# Altium schematic symbol library Library.SchLib: 691 symbols (part 7 of 11)
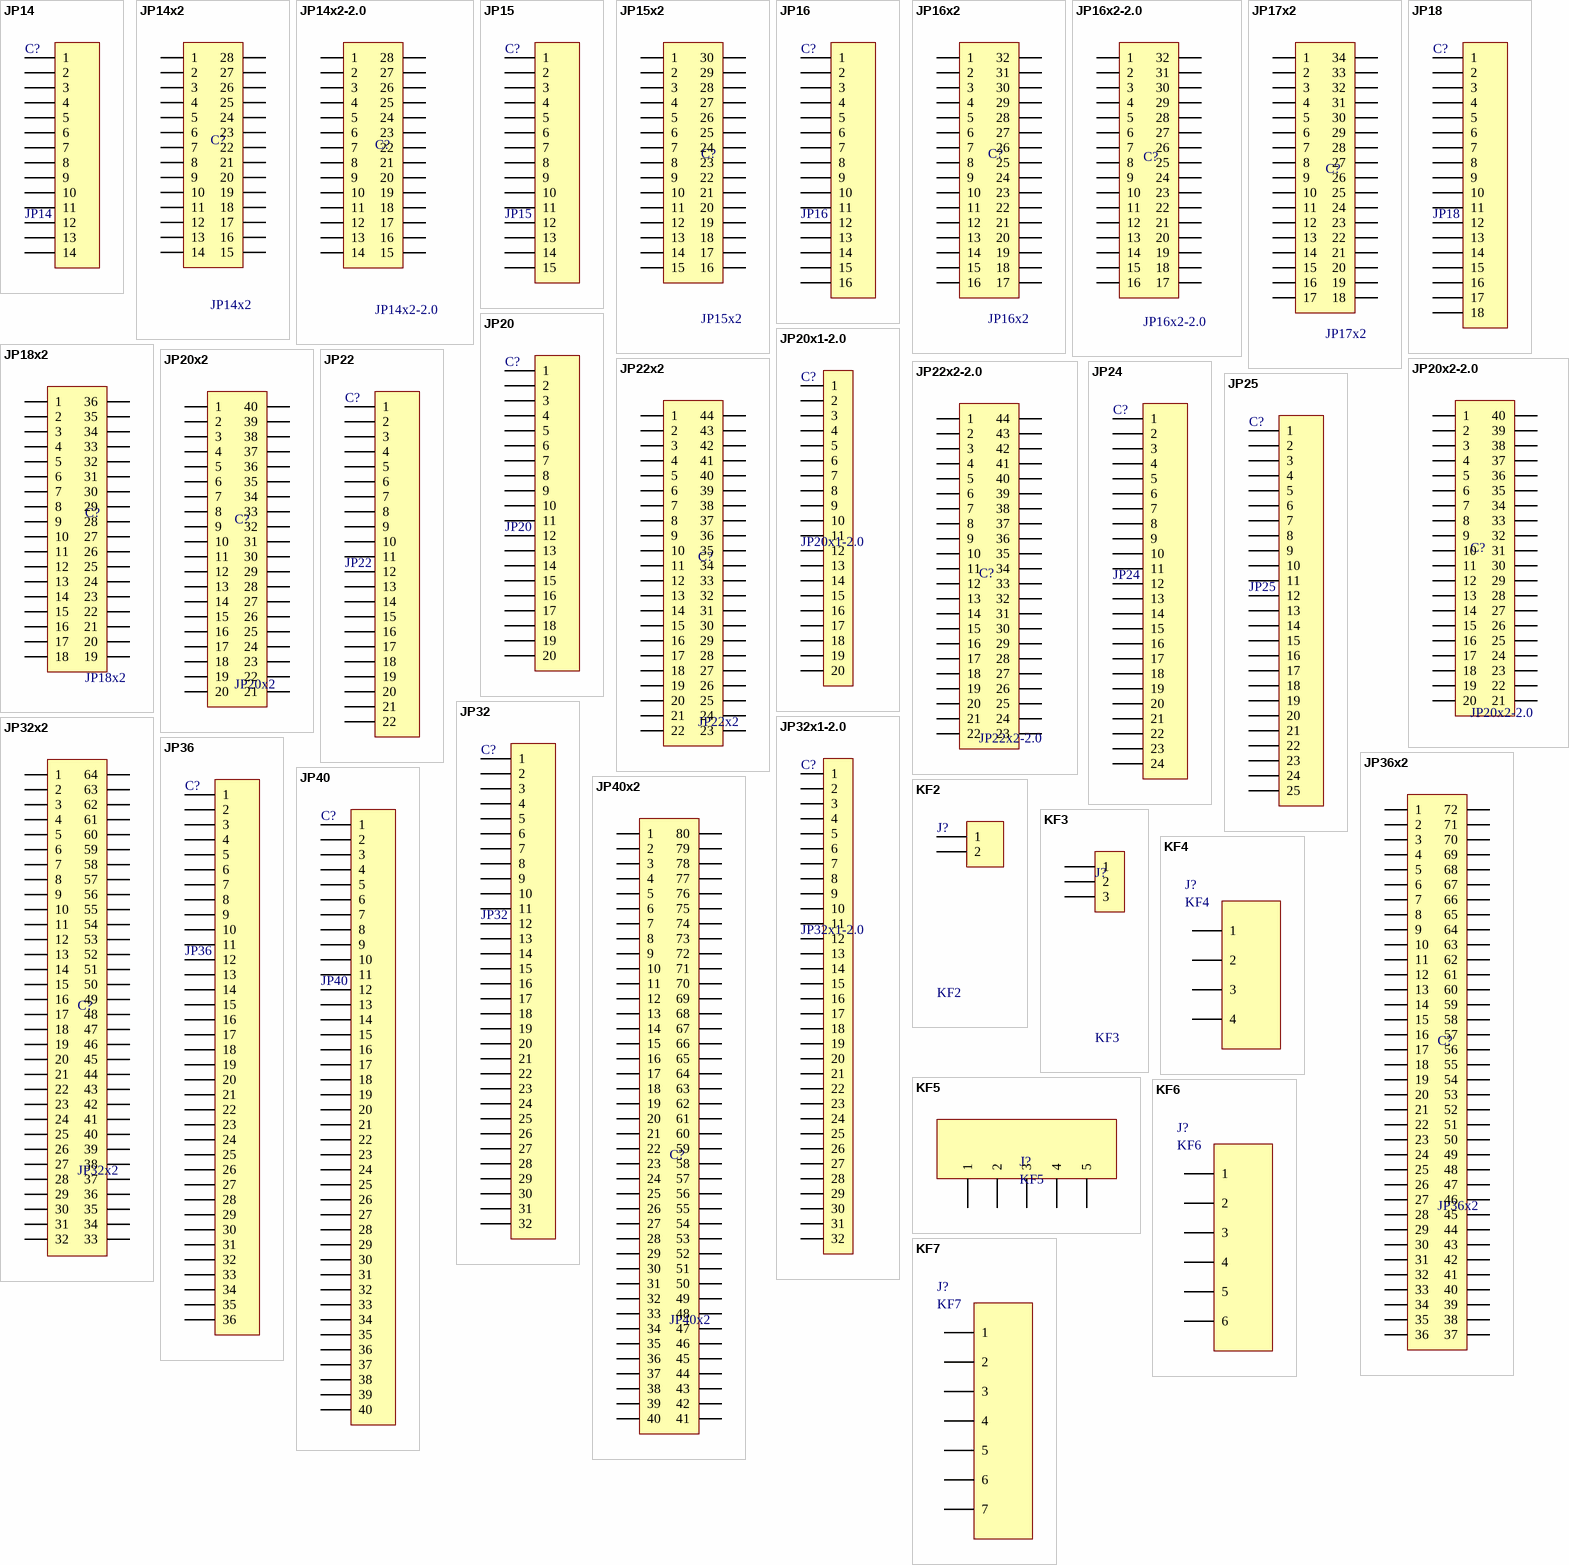
[diagram p52: symbols JP14 to KF7]

## JP20x2-2.0
designator C?
WR-PHD 2.00 mm Dual Pin Header; Manufacturer: W¨¹rth Elektronik eiSos GmbH; partNo: 62004021121; ComponentLink1 Description: Manufacturer; ComponentLink2 Description: Datasheet; NoPins: 40; Created Date: 2 April 2013; ComponentLink1URL: http://www.we-online.com; ComponentLink2URL: http://katalog.we-online.de/em/datasheet/6200xx21121.pdf; Created by: Karrer Zheng
footprint J20-C2T (40 pins, dual row, straight, gold plating)
footprint J20-D2T (40 pins, dual row, straight, gold plating)
pins: 1, 2, 3, 4, 5, 6, 7, 8, 9, 10, 11, 12, 13, 14, 15, 16, 17, 18, 19, 20, 21, 22, 23, 24, 25, 26, 27, 28, 29, 30, 31, 32, 33, 34, 35, 36, 37, 38, 39, 40

## JP22
designator C?
WR-PHD 2.54 mm Angled Socket Header; Manufacturer: W¨¹rth Elektronik eiSos GmbH; partNo: 613022143121; ComponentLink1 Description: Manufacturer; ComponentLink2 Description: Datasheet; NoPins: 22; Created Date: 29 March 2013; ComponentLink1URL: http://www.we-online.com; ComponentLink2URL: http://katalog.we-online.de/em/datasheet/6130xx143121.pdf; Created by: Karrer Zheng
footprint JP22-D1C (22 pins, 1 row, right angled, gold plating)
footprint JP22-D1T (22 pins, 1 row, straight, gold plating)
footprint JP22-C1C (22p 1 row Right angle)
footprint JP22-C1T (22 row, straight, gold plating)
pins: 1, 2, 3, 4, 5, 6, 7, 8, 9, 10, 11, 12, 13, 14, 15, 16, 17, 18, 19, 20, 21, 22

## JP22x2
designator C?
WR-PHD 2.54 mm Dual Socket Header; Manufacturer: W¨¹rth Elektronik eiSos GmbH; partNo: 61304421821; ComponentLink1 Description: Manufacturer; ComponentLink2 Description: Datasheet; NoPins: 44; Created Date: 29 March 2013; ComponentLink1URL: http://www.we-online.com; ComponentLink2URL: http://katalog.we-online.de/em/datasheet/6130xx21821.pdf; Created by: Karrer Zheng
footprint JP22-D2T (44 pins, dual pin, straight, gold plating)
footprint JP22-C2C (44p 2 rows Right angle)
footprint JP22-C2T (44 pins, dual row, straight, gold plating)
pins: 1, 2, 3, 4, 5, 6, 7, 8, 9, 10, 11, 12, 13, 14, 15, 16, 17, 18, 19, 20, 21, 22, 23, 24, 25, 26, 27, 28, 29, 30, 31, 32, 33, 34, 35, 36, 37, 38, 39, 40, 41, 42, 43, 44

## JP22x2-2.0
designator C?
WR-PHD 2.00 mm Dual Pin Header; Manufacturer: W¨¹rth Elektronik eiSos GmbH; partNo: 62004421121; ComponentLink1 Description: Manufacturer; ComponentLink2 Description: Datasheet; NoPins: 44; Created Date: 2 April 2013; ComponentLink1URL: http://www.we-online.com; ComponentLink2URL: http://katalog.we-online.de/em/datasheet/6200xx21121.pdf; Created by: Karrer Zheng
footprint J22-C2T (44 pins, dual row, straight, gold plating)
footprint J22-D2T (44pins, dual row, straight, gold plating)
pins: 1, 2, 3, 4, 5, 6, 7, 8, 9, 10, 11, 12, 13, 14, 15, 16, 17, 18, 19, 20, 21, 22, 23, 24, 25, 26, 27, 28, 29, 30, 31, 32, 33, 34, 35, 36, 37, 38, 39, 40, 41, 42, 43, 44

## JP24
designator C?
WR-PHD 2.54 mm Angled Socket Header; Manufacturer: W¨¹rth Elektronik eiSos GmbH; partNo: 613024143121; ComponentLink1 Description: Manufacturer; ComponentLink2 Description: Datasheet; NoPins: 24; Created Date: 29 March 2013; ComponentLink1URL: http://www.we-online.com; ComponentLink2URL: http://katalog.we-online.de/em/datasheet/6130xx143121.pdf; Created by: Karrer Zheng
footprint JP24-C1T (24 row, straight, gold plating)
footprint JP24-D1T (24 pins, 1 row, straight, gold plating)
footprint JP24-C1C (24p 1 row Right angle)
pins: 1, 2, 3, 4, 5, 6, 7, 8, 9, 10, 11, 12, 13, 14, 15, 16, 17, 18, 19, 20, 21, 22, 23, 24

## JP25
designator C?
WR-PHD 2.54 mm Angled Socket Header; Manufacturer: W¨¹rth Elektronik eiSos GmbH; partNo: 613025143121; ComponentLink1 Description: Manufacturer; ComponentLink2 Description: Datasheet; NoPins: 25; Created Date: 29 March 2013; ComponentLink1URL: http://www.we-online.com; ComponentLink2URL: http://katalog.we-online.de/em/datasheet/6130xx143121.pdf; Created by: Karrer Zheng
footprint JP25-D1T (25 pins, 1 row, straight, gold plating)
footprint JP25-C1C (25p 1 row Right angle)
footprint JP25-C1T (25 row, straight, gold plating)
pins: 1, 2, 3, 4, 5, 6, 7, 8, 9, 10, 11, 12, 13, 14, 15, 16, 17, 18, 19, 20, 21, 22, 23, 24, 25

## JP32
designator C?
WR-PHD 2.54 mm Angled Socket Header; Manufacturer: W¨¹rth Elektronik eiSos GmbH; partNo: 613032143121; ComponentLink1 Description: Manufacturer; ComponentLink2 Description: Datasheet; NoPins: 32; Created Date: 29 March 2013; ComponentLink1URL: http://www.we-online.com; ComponentLink2URL: http://katalog.we-online.de/em/datasheet/6130xx143121.pdf; Created by: Karrer Zheng
footprint JP32-D1C (32 pins, 1 row, right angled, gold plating)
footprint JP32-C1C (32p 1 row Right angle)
footprint JP32-C1T (32 row, straight, gold plating)
footprint JP32-D1T (32 pins, 1 row, straight, gold plating)
footprint JP32-D1T1 (32 pins, 1 row, gold plating)
footprint JP32-D1T2 (32 pins, 1 row, gold plating)
footprint JP32-D1T3 (32 pins, 1 row, gold plating)
footprint JP32-D1T4 (32 pins, 1 row, gold plating)
pins: 1, 2, 3, 4, 5, 6, 7, 8, 9, 10, 11, 12, 13, 14, 15, 16, 17, 18, 19, 20, 21, 22, 23, 24, 25, 26, 27, 28, 29, 30, 31, 32

## JP32x1-2.0
designator C?
WR-PHD 2.00 mm Socket Header; Manufacturer: W¨¹rth Elektronik eiSos GmbH; partNo: 62003211821; ComponentLink1 Description: Manufacturer; ComponentLink2 Description: Datasheet; NoPins: 32; Created Date: 2 April 2013; ComponentLink1URL: http://www.we-online.com; ComponentLink2URL: http://katalog.we-online.de/em/datasheet/6200xx11821.pdf; Created by: Karrer Zheng
footprint J32-C1T (32p, 1 row, straight, gold plating)
footprint J32-D1T (32 pins, 1 row, straight, gold plating)
pins: 1, 2, 3, 4, 5, 6, 7, 8, 9, 10, 11, 12, 13, 14, 15, 16, 17, 18, 19, 20, 21, 22, 23, 24, 25, 26, 27, 28, 29, 30, 31, 32

## JP32x2
designator C?
WR-PHD 2.54 mm Dual Socket Header; Manufacturer: W¨¹rth Elektronik eiSos GmbH; partNo: 61306421821; ComponentLink1 Description: Manufacturer; ComponentLink2 Description: Datasheet; NoPins: 64; Created Date: 29 March 2013; ComponentLink1URL: http://www.we-online.com; ComponentLink2URL: http://katalog.we-online.de/em/datasheet/6130xx21821.pdf; Created by: Karrer Zheng
footprint JP32-C2C (64p 2 rows Right angle)
footprint JP32-D2T (64 pins, dual pin, straight, gold plating)
footprint JP32-D2C (64 pins, dual row, right angled, gold plating)
footprint JP32-C2T (64 pins, dual row, straight, gold plating)
footprint JP32-D2T1 (64 pins, dual row, gold plating)
footprint JP32-D2T2 (64 pins, dual row, gold plating)
footprint JP32-D2T3 (64 pins, dual row, gold plating)
footprint JP32-D2T4 (64 pins, dual row, gold plating)
pins: 1, 2, 3, 4, 5, 6, 7, 8, 9, 10, 11, 12, 13, 14, 15, 16, 17, 18, 19, 20, 21, 22, 23, 24, 25, 26, 27, 28, 29, 30, 31, 32, 33, 34, 35, 36, 37, 38, 39, 40, 41, 42, 43, 44, 45, 46, 47, 48, 49, 50, 51, 52, 53, 54, 55, 56, 57, 58, 59, 60, 61, 62, 63, 64

## JP36
designator C?
WR-PHD 2.54 mm Angled Socket Header; Manufacturer: W¨¹rth Elektronik eiSos GmbH; partNo: 613036143121; ComponentLink1 Description: Manufacturer; ComponentLink2 Description: Datasheet; NoPins: 36; Created Date: 29 March 2013; ComponentLink1URL: http://www.we-online.com; ComponentLink2URL: http://katalog.we-online.de/em/datasheet/6130xx143121.pdf; Created by: Karrer Zheng
footprint JP36-D1C (36 pins, 1 row, right angled, gold plating)
footprint JP36-C1C (36p 1 row Right angle)
footprint JP36-C1T (36 row, straight, gold plating)
footprint JP36-D1T (36 pins, 1 row, straight, gold plating)
pins: 1, 2, 3, 4, 5, 6, 7, 8, 9, 10, 11, 12, 13, 14, 15, 16, 17, 18, 19, 20, 21, 22, 23, 24, 25, 26, 27, 28, 29, 30, 31, 32, 33, 34, 35, 36

## JP36x2
designator C?
WR-PHD 2.54 mm Dual Socket Header; Manufacturer: W¨¹rth Elektronik eiSos GmbH; partNo: 61307221821; ComponentLink1 Description: Manufacturer; ComponentLink2 Description: Datasheet; NoPins: 72; Created Date: 29 March 2013; ComponentLink1URL: http://www.we-online.com; ComponentLink2URL: http://katalog.we-online.de/em/datasheet/6130xx21821.pdf; Created by: Karrer Zheng
footprint JP36-C2T (72 pins, dual row, straight, gold plating)
footprint JP36-C2C (72p 2 rows Right angle)
footprint JP36-D2T (72 pins, dual pin, straight, gold plating)
footprint JP36-D2C (72 pins, dual row, right angled, gold plating)
pins: 1, 2, 3, 4, 5, 6, 7, 8, 9, 10, 11, 12, 13, 14, 15, 16, 17, 18, 19, 20, 21, 22, 23, 24, 25, 26, 27, 28, 29, 30, 31, 32, 33, 34, 35, 36, 37, 38, 39, 40, 41, 42, 43, 44, 45, 46, 47, 48, 49, 50, 51, 52, 53, 54, 55, 56, 57, 58, 59, 60, 61, 62, 63, 64, 65, 66, 67, 68, 69, 70, 71, 72

## JP40
designator C?
WR-PHD 2.54 mm Angled Socket Header; Manufacturer: W¨¹rth Elektronik eiSos GmbH; partNo: 613040143121; ComponentLink1 Description: Manufacturer; ComponentLink2 Description: Datasheet; NoPins: 40; Created Date: 29 March 2013; ComponentLink1URL: http://www.we-online.com; ComponentLink2URL: http://katalog.we-online.de/em/datasheet/6130xx143121.pdf; Created by: Karrer Zheng
footprint JP40-D1C (40 pins, 1 row, right angled, gold plating)
footprint JP40-C1C (40p 1 row Right angle)
footprint JP40-D1T (40 pins, 1 row, straight, gold plating)
footprint JP40-C1T (40 row, straight, gold plating)
pins: 1, 2, 3, 4, 5, 6, 7, 8, 9, 10, 11, 12, 13, 14, 15, 16, 17, 18, 19, 20, 21, 22, 23, 24, 25, 26, 27, 28, 29, 30, 31, 32, 33, 34, 35, 36, 37, 38, 39, 40

## JP40x2
designator C?
WR-PHD 2.54 mm Dual Socket Header; Manufacturer: W¨¹rth Elektronik eiSos GmbH; partNo: 61307221821; ComponentLink1 Description: Manufacturer; ComponentLink2 Description: Datasheet; NoPins: 72; Created Date: 29 March 2013; ComponentLink1URL: http://www.we-online.com; ComponentLink2URL: http://katalog.we-online.de/em/datasheet/6130xx21821.pdf; Created by: Karrer Zheng
footprint JP40-D2T (80 pins, dual row, right angled, gold plating)
pins: 1, 2, 3, 4, 5, 6, 7, 8, 9, 10, 11, 12, 13, 14, 15, 16, 17, 18, 19, 20, 21, 22, 23, 24, 25, 26, 27, 28, 29, 30, 31, 32, 33, 34, 35, 36, 37, 38, 39, 40, 41, 42, 43, 44, 45, 46, 47, 48, 49, 50, 51, 52, 53, 54, 55, 56, 57, 58, 59, 60, 61, 62, 63, 64, 65, 66, 67, 68, 69, 70, 71, 72, 73, 74, 75, 76, 77, 78, 79, 80

## KF2
designator J?
Manufacturer: Würth Elektronik eiSos GmbH; partNo: 691103110002; ComponentLink1 Description: Manufacturer; ComponentLink2 Description: Datasheet; NoPins: 2; Created Date: 29 October 2013; ComponentLink1URL: http://www.we-online.com; ComponentLink2URL: http://katalog.we-online.de/em/datasheet/6911031100xx.pdf; Created by: Karrer Zheng
footprint KF2-3.5 (3,50mm - modular - blue - Horizontal wire entry - Pressure clamp - 8,4mm height - 02p)
footprint KF2-5.08
footprint KF2-5.08T (Header 2, 2 pin, hight 300mil, Pin to Pin 200, Colour Green)
footprint KF2-7.62
pins: 1, 2

## KF3
designator J?
Manufacturer: Würth Elektronik eiSos GmbH; partNo: 691103110003; ComponentLink1 Description: Manufacturer; ComponentLink2 Description: Datasheet; NoPins: 3; Created Date: 29 October 2013; ComponentLink1URL: http://www.we-online.com; ComponentLink2URL: http://katalog.we-online.de/em/datasheet/6911031100xx.pdf; Created by: Karrer Zheng
footprint KF3-5.08
footprint KF3-10 (Serie 1368 - 10.00 mm _ 3 pins)
footprint KF3-3.5 (3,50mm - modular - blue - Horizontal wire entry - Pressure clamp - 8,4mm height - 03p)
footprint KF3-3.96-T1 (3,96mm - modular - blue - Horizontal wire entry - Pressure clamp - 10mm height - 03p)
footprint KF3-8.5
footprint KF3-5.08T (Header 3, 3 pin, hight 300mil, Pin to Pin 200, Colour Green)
footprint KF3-7.62
pins: 1, 2, 3

## KF4
designator J?
Manufacturer: W¨¹rth Elektronik eiSos GmbH; PartNo: 691133710004; ComponentLink1 Description: Manufacturer; ComponentLink2 Description: Datasheet; NoPins: 4; ComponentLink1 URL: http://www.we-online.com; ComponentLink2 URL: http://katalog.we-online.de/em/datasheet/6911337100xx.pdf; Created By: Baojun Chen; Created Date: 4-Aug-15
footprint KF4-5.08
footprint KF4-10 (Serie 1368 - 10.00 mm _ 4 pins)
footprint KF4-5 (Serie 1337 - 5.00 mm_4 pins)
footprint KF4-8.5
footprint KF4-5.08T (Header 4, 4 pin, hight 300mil, Pin to Pin 200, Colour Green)
footprint KF4-7.62
pins: 1, 2, 3, 4

## KF5
designator J?
Manufacturer: W¨¹rth Elektronik eiSos GmbH; PartNo: 691133710005; ComponentLink1 Description: Manufacturer; ComponentLink2 Description: Datasheet; NoPins: 5; ComponentLink1 URL: http://www.we-online.com; ComponentLink2 URL: http://katalog.we-online.de/em/datasheet/6911337100xx.pdf; Created By: Baojun Chen; Created Date: 4-Aug-15
footprint KF5-10 (Serie 1368 - 10.00 mm _ 5 pins)
footprint KF5-5 (Serie 1337 - 5.00 mm_5 pins)
footprint KF5-5.08T
footprint KF5-7.62
pins: 1, 2, 3, 4, 5

## KF6
designator J?
Manufacturer: W¨¹rth Elektronik eiSos GmbH; PartNo: 691133710006; ComponentLink1 Description: Manufacturer; ComponentLink2 Description: Datasheet; NoPins: 6; ComponentLink1 URL: http://www.we-online.com; ComponentLink2 URL: http://katalog.we-online.de/em/datasheet/6911337100xx.pdf; Created By: Baojun Chen; Created Date: 4-Aug-15
footprint KF6-5 (Serie 1337 - 5.00 mm_6 pins)
footprint KF6-10 (Serie 1368 - 10.00 mm _ 6 pins)
pins: 1, 2, 3, 4, 5, 6

## KF7
designator J?
Manufacturer: W¨¹rth Elektronik eiSos GmbH; PartNo: 691133710007; ComponentLink1 Description: Manufacturer; ComponentLink2 Description: Datasheet; NoPins: 7; ComponentLink1 URL: http://www.we-online.com; ComponentLink2 URL: http://katalog.we-online.de/em/datasheet/6911337100xx.pdf; Created By: Baojun Chen; Created Date: 4-Aug-15
footprint KF7-10 (Serie 1368 - 10.00 mm _ 7 pins)
footprint KF7-5 (Serie 1337 - 5.00 mm_7 pins)
pins: 1, 2, 3, 4, 5, 6, 7

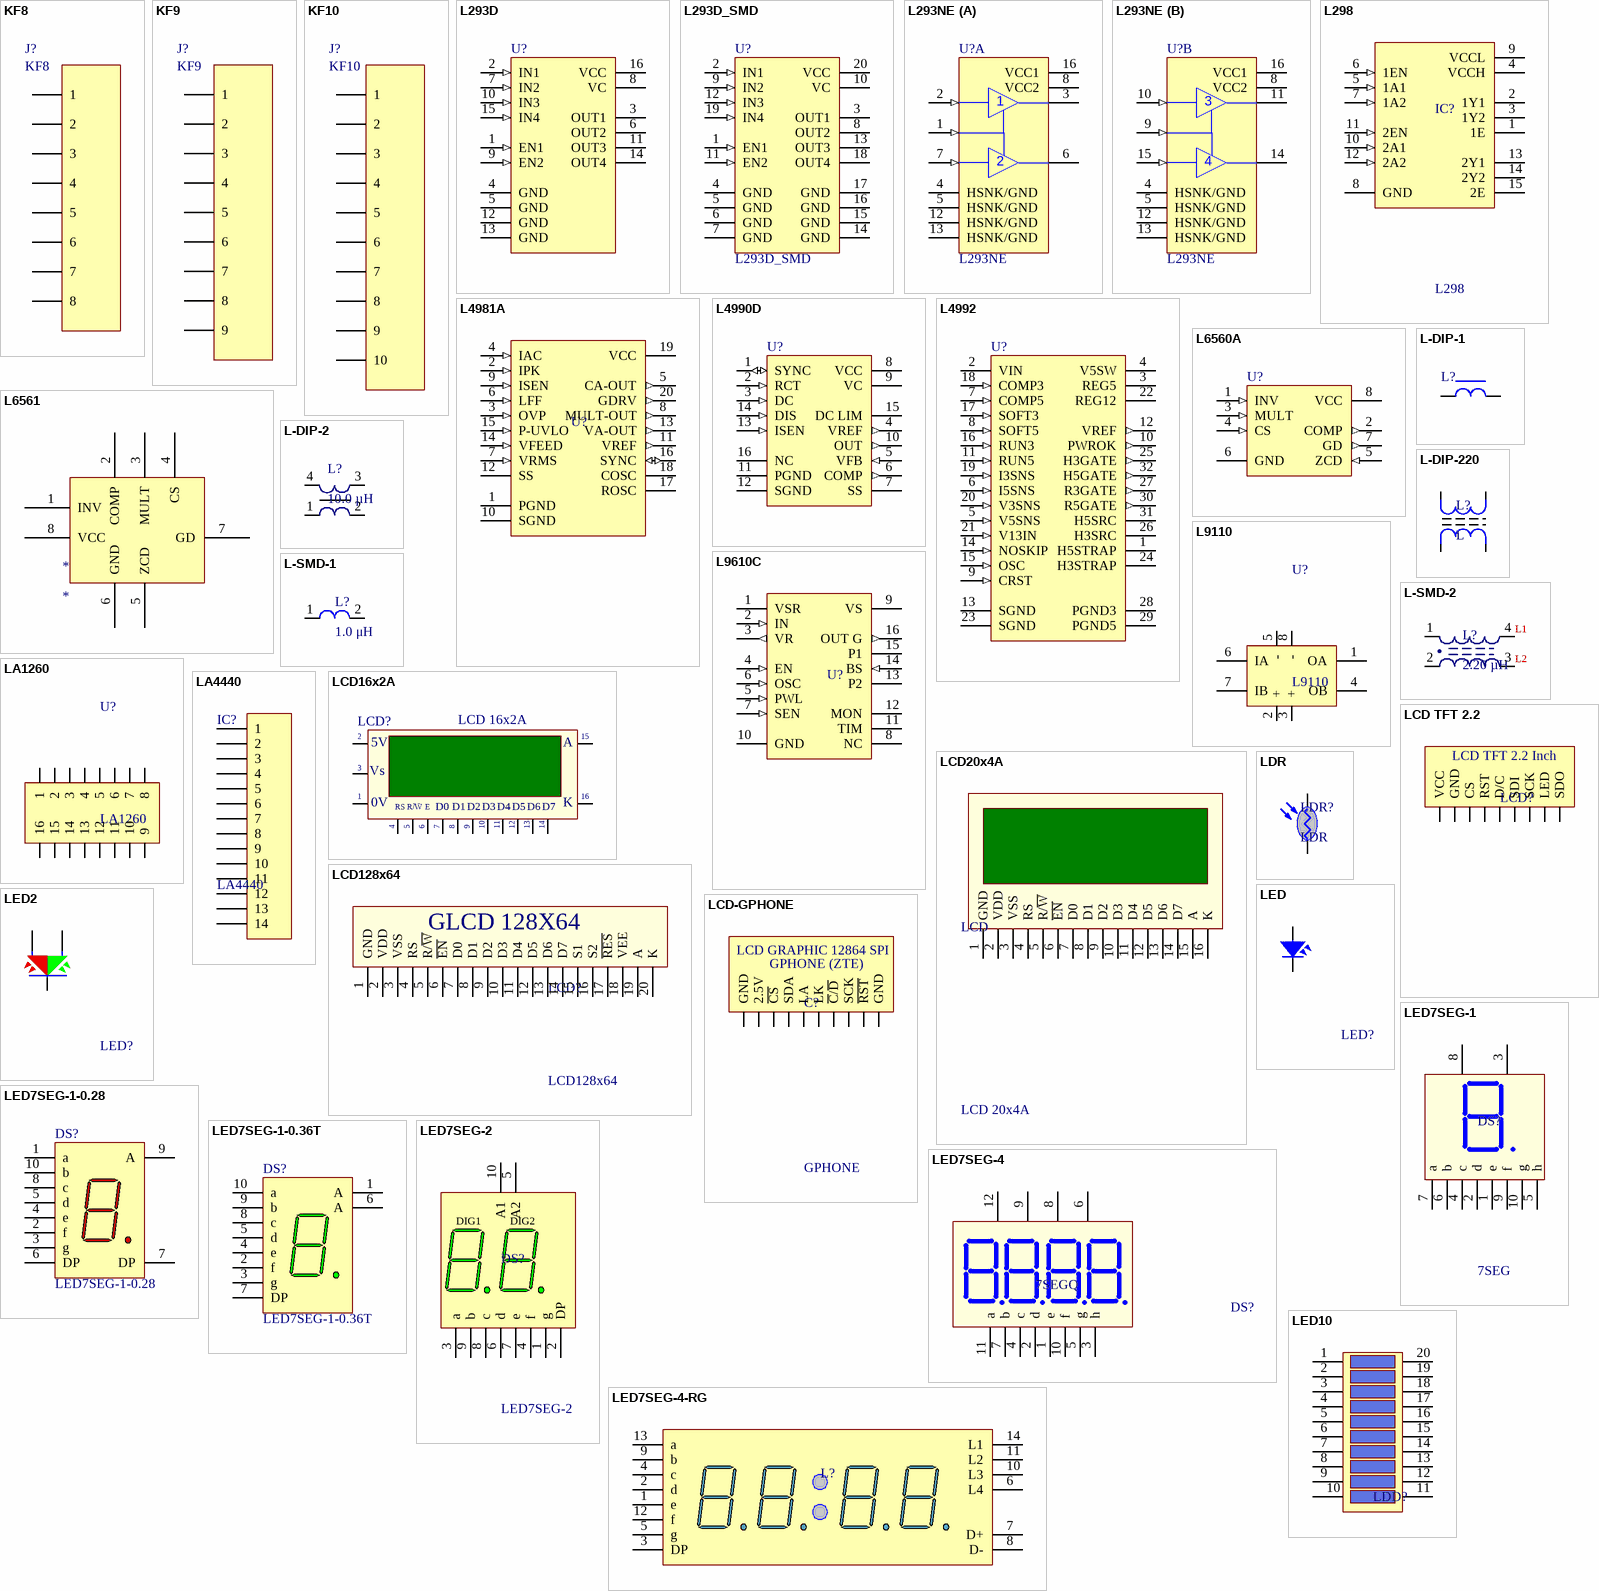
[diagram p31: symbols KF8 to LED10]

## KF8
designator J?
Manufacturer: W¨¹rth Elektronik eiSos GmbH; PartNo: 691133710008; ComponentLink1 Description: Manufacturer; ComponentLink2 Description: Datasheet; NoPins: 8; ComponentLink1 URL: http://www.we-online.com; ComponentLink2 URL: http://katalog.we-online.de/em/datasheet/6911337100xx.pdf; Created By: Baojun Chen; Created Date: 4-Aug-15
footprint KF8-10 (Serie 1368 - 10.00 mm _ 8 pins)
footprint KF8-5 (Serie 1337 - 5.00 mm_8 pins)
pins: 1, 2, 3, 4, 5, 6, 7, 8

## KF9
designator J?
Manufacturer: W¨¹rth Elektronik eiSos GmbH; PartNo: 691133710009; ComponentLink1 Description: Manufacturer; ComponentLink2 Description: Datasheet; NoPins: 9; ComponentLink1 URL: http://www.we-online.com; ComponentLink2 URL: http://katalog.we-online.de/em/datasheet/6911337100xx.pdf; Created By: Baojun Chen; Created Date: 4-Aug-15
footprint KF9-10 (Serie 1368 - 10.00 mm _ 9 pins)
footprint KF9-5 (Serie 1337 - 5.00 mm_9 pins)
pins: 1, 2, 3, 4, 5, 6, 7, 8, 9

## KF10
designator J?
Manufacturer: W¨¹rth Elektronik eiSos GmbH; PartNo: 691133710010; ComponentLink1 Description: Manufacturer; ComponentLink2 Description: Datasheet; NoPins: 10; ComponentLink1 URL: http://www.we-online.com; ComponentLink2 URL: http://katalog.we-online.de/em/datasheet/6911337100xx.pdf; Created By: Baojun Chen; Created Date: 4-Aug-15
footprint KF10-10 (Serie 1368 - 10.00 mm _ 10 pins)
footprint KF10-5 (Serie 1337 - 5.00 mm_10 pins)
pins: 1, 2, 3, 4, 5, 6, 7, 8, 9, 10

## L293D
designator U?
Push-Pull Four Channel Driver With Diode; Published: 8-Jun-2000; LatestRevisionDate: 06-Jun-2005; LatestRevisionNote: Stylized 3D Model Added.; DatasheetVersion: Jun-1996; PackageVersion: Apr-1996; PackageReference: DIP16; Publisher: Altium Limited; PackageDescription: DIP; 16 Leads; Row Spacing 7.62 mm; Pitch 2.54 mm; ComponentLink1Description: Manufacturer Link; ComponentLink1URL: http://www.st.com/; ComponentLink2Description: Datasheet; ComponentLink2URL: http://www.st.com/stonline/products/literature/ds/1330/l293d.pdf
footprint DIP16
pins: 1 EN1 (in), 2 IN1 (in), 3 OUT1 (hiz), 4 GND (power), 5 GND (power), 6 OUT2 (hiz), 7 IN2 (in), 8 VC (power), 9 EN2 (in), 10 IN3 (in), 11 OUT3 (hiz), 12 GND (power), 13 GND (power), 14 OUT4 (hiz), 15 IN4 (in), 16 VCC (power)

## L293D_SMD
designator U?
Push-Pull Four Channel Driver With Diode; Published: 8-Jun-2000; LatestRevisionDate: 06-Jun-2005; LatestRevisionNote: Stylized 3D Model Added.; DatasheetVersion: Jun-1996; PackageVersion: Apr-1996; PackageReference: DIP16; Publisher: Altium Limited; PackageDescription: DIP; 16 Leads; Row Spacing 7.62 mm; Pitch 2.54 mm; ComponentLink1Description: Manufacturer Link; ComponentLink1URL: http://www.st.com/; ComponentLink2Description: Datasheet; ComponentLink2URL: http://www.st.com/stonline/products/literature/ds/1330/l293d.pdf
footprint SO20 (SOIC, 20-Leads, Body 12.60x7.50mm, Pitch 1.27mm, IPC Medium Density)
pins: 1 EN1 (in), 2 IN1 (in), 3 OUT1 (hiz), 4 GND (power), 5 GND (power), 6 GND (power), 7 GND (power), 8 OUT2 (hiz), 9 IN2 (in), 10 VC (power), 11 EN2 (in), 12 IN3 (in), 13 OUT3 (hiz), 14 GND (power), 15 GND (power), 16 GND (power), 17 GND (power), 18 OUT4 (hiz), 19 IN4 (in), 20 VCC (power)

## L293NE
designator U?
Quadruple Half-H Driver; Published: 15-May-2002; LatestRevisionDate: 04-Mar-2005; LatestRevisionNote: Stylized 3D Model Added.; DatasheetVersion: May-1990; PackageVersion: 1991; PackageReference: NE016; Publisher: Altium Limited; PackageDescription: DIP; 16 Leads; Row Spacing 7.62 mm; Pitch 2.54 mm; Code_JEDEC: MS-001-BB; ComponentLink1Description: Manufacturer Link; ComponentLink1URL: http://www.ti.com/; ComponentLink2Description: Datasheet; ComponentLink2URL: http://www-s.ti.com/sc/ds/l293.pdf
footprint DIP16
pins on every part: 4 HSNK/GND (power), 5 HSNK/GND (power), 8 VCC2 (power), 12 HSNK/GND (power), 13 HSNK/GND (power), 16 VCC1 (power)
part A pins: 1 1,2EN (in), 2 1A (in), 3 1Y (hiz), 6 2Y (hiz), 7 2A (in)
part B pins: 9 3,4EN (in), 10 3A (in), 11 3Y (hiz), 14 4Y (hiz), 15 4A (in)

## L298
designator IC?
Dual Full-H Driver; Note: The tab is elec is connected to GND pin; Published: 15-May-2002; DatasheetVersion: Jun-1990; PackageReference: KV015; Publisher: Altium Limited; PackageDescription: TO, Thru-Hole, Vertical, Heatsink Mounted; 15 Bent Staggered Leads; Pitch 1.27 mm; ComponentLink1Description: Manufacturer Link; ComponentLink1URL: http://www.ti.com/
footprint DIP15SL2
pins: 1 1E, 2 1Y1 (hiz), 3 1Y2 (hiz), 4 VCCH (power), 5 1A1 (in), 6 1EN (in), 7 1A2 (in), 8 GND (power), 9 VCCL (power), 10 2A1 (in), 11 2EN (in), 12 2A2 (in), 13 2Y1 (hiz), 14 2Y2 (hiz), 15 2E

## L4981A
designator U?
Power Factor Corrector; Published: 24-Aug-2001; LatestRevisionDate: 06-Jun-2005; LatestRevisionNote: Stylized 3D Model Added.; DatasheetVersion: Sep-1998; PackageVersion: Jun-1998; PackageReference: DIP20; Publisher: Altium Limited; PackageDescription: DIP; 20 Leads; Row Spacing 7.62 mm; Pitch 2.54 mm; Code_JEDEC: MS-015-AE; ComponentLink1Description: Manufacturer Link; ComponentLink1URL: http://www.st.com/; ComponentLink2Description: Datasheet; ComponentLink2URL: http://www.st.com/stonline/products/literature/ds/1366/l4981.pdf
footprint DIP20 (DIP 20, 20 PIN, W 300mil, Pin to pin 100mil)
footprint SO20 (SOIC, 20-Leads, Body 12.60x7.50mm, Pitch 1.27mm, IPC Medium Density)
pins: 1 PGND (power), 2 IPK (in), 3 OVP (in), 4 IAC (in), 5 CA-OUT (out), 6 LFF (in), 7 VRMS (in), 8 MULT-OUT (out), 9 ISEN (in), 10 SGND (power), 11 VREF (out), 12 SS, 13 VA-OUT (out), 14 VFEED (in), 15 P-UVLO (in), 16 SYNC (io), 17 ROSC, 18 COSC, 19 VCC (power), 20 GDRV (out)

## L4990D
designator U?
Primary Controller; Published: 24-Aug-2001; LatestRevisionDate: 13-Apr-2006; LatestRevisionNote: IPC-7351 Footprint Added.; DatasheetVersion: Jul-1999; PackageVersion: Apr-1998; PackageReference: SO16W; Publisher: Altium Limited; PackageDescription: 16-Pin Small Outline Integrated Circuit 1.27 mm Pitch; Code_JEDEC: MS-013-AA; Code_IPC: SOIC127P1030-16; ComponentLink1Description: Manufacturer Link; ComponentLink1URL: http://www.st.com/
footprint DIP16
footprint SO16L (SOIC, 16-Leads, Body 10.30x7.50mm, Pitch 1.27mm, IPC Medium Density)
pins: 1 SYNC (io), 2 RCT (in), 3 DC (in), 4 VREF (out), 5 VFB (in), 6 COMP (out), 7 SS, 8 VCC (power), 9 VC (power), 10 OUT (out), 11 PGND (power), 12 SGND (power), 13 ISEN (in), 14 DIS (in), 15 DC LIM, 16 NC

## L4992
designator U?
Triple Output Power Supply Controller; Published: 24-Aug-2001; LatestRevisionDate: 13-Apr-2006; LatestRevisionNote: IPC-7351 Footprint Added.; DatasheetVersion: Mar-1998; PackageVersion: Oct-1997; PackageReference: TQFP32; Publisher: Altium Limited; PackageDescription: 32-Pin Thin Quad Flat Pack 0.8 mm Pitch; ComponentLink1Description: Manufacturer Link; ComponentLink1URL: http://www.st.com/
footprint TQFP32
pins: 1 H5STRAP, 2 VIN (power), 3 REG5 (power), 4 V5SW (power), 5 V5SNS (in), 6 I5SNS (in), 7 COMP5 (in), 8 SOFT5 (in), 9 CRST (in), 10 PWROK (out), 11 RUN5 (in), 12 VREF (out), 13 SGND (power), 14 NOSKIP (in), 15 OSC (in), 16 RUN3 (in), 17 SOFT3 (in), 18 COMP3 (in), 19 I3SNS (in), 20 V3SNS (in), 21 V13IN (in), 22 REG12 (power), 23 SGND (power), 24 H3STRAP, 25 H3GATE (out), 26 H3SRC, 27 R3GATE (out), 28 PGND3 (power), 29 PGND5 (power), 30 R5GATE (out), 31 H5SRC, 32 H5GATE (out)

## L6560A
designator U?
Power Factor Corrector; Published: 24-Aug-2001; LatestRevisionDate: 06-Jun-2005; LatestRevisionNote: Stylized 3D Model Added.; DatasheetVersion: Jul-1997; PackageReference: DIP8; Publisher: Altium Limited; PackageDescription: DIP; 8 Leads; Row Spacing 7.62 mm; Pitch 2.54 mm; Code_JEDEC: MO-001-AN; ComponentLink1Description: Manufacturer Link; ComponentLink1URL: http://www.st.com/
footprint DIP8
footprint SO8 (SOIC, 8-Leads, Body 4.9x3.9mm, Pitch 1.27mm, IPC High Density)
pins: 1 INV (in), 2 COMP (out), 3 MULT (in), 4 CS (in), 5 ZCD (in), 6 GND (power), 7 GD (out), 8 VCC (power)

## L6561
designator *
footprint DIP8
footprint SO8 (SOIC, 8-Leads, Body 4.9x3.9mm, Pitch 1.27mm, IPC High Density)
pins: 1 INV, 2 COMP, 3 MULT, 4 CS, 5 ZCD, 6 GND (power), 7 GD, 8 VCC (power)

## L9110
designator U?
Half-Bridge Driver
footprint DIP8
footprint SO8 (SOIC, 8-Leads, Body 4.9x3.9mm, Pitch 1.27mm, IPC High Density)
pins: 1 OA, 2 +, 3 +, 4 OB, 5 -, 6 IA, 7 IB, 8 -

## L9610C
designator U?
PWM Power MOS Controller; Published: 24-Aug-2001; LatestRevisionDate: 06-Jun-2005; LatestRevisionNote: Stylized 3D Model Added.; DatasheetVersion: Nov-1991; PackageVersion: Apr-1996; PackageReference: DIP16; Publisher: Altium Limited; PackageDescription: DIP; 16 Leads; Row Spacing 7.62 mm; Pitch 2.54 mm; ComponentLink1Description: Manufacturer Link; ComponentLink1URL: http://www.st.com/; ComponentLink2Description: Datasheet; ComponentLink2URL: http://www.st.com/stonline/products/literature/ds/1408/l9610.pdf
footprint DIP16
footprint SO16 (SOIC, 16-Leads, Body 9.90x3.91mm, Pitch 1.27mm, IPC Medium Density)
pins: 1 VSR, 2 IN (in), 3 VR (out), 4 EN (in), 5 PWL (in), 6 OSC (in), 7 SEN (in), 8 NC, 9 VS (power), 10 GND (power), 11 TIM, 12 MON (oc), 13 P2, 14 BS (in), 15 P1, 16 OUT G (out)

## L-DIP-1
designator L?
Inductor; Value: 150 mH
footprint L-DIP-M-5.3 (THT Inductor, 2-Leads, Body 5.3  mm)
footprint L-DIP-M-6.0 (THT Inductor, 2-Leads, Body 6,0  mm)
footprint L-DIP-M-7.8 (THT Inductor, 2-Leads, Body 7,8  mm)
footprint L-DIP-M-8 (THT Inductor, 2-Leads, Body 8,0  mm)
footprint L-DIP-M-9.5x5.5 (Body 9.5x5.5mm, 2 leads)
footprint L-DIP-M-9.5x6 (Body 9.5x6mm, 2 leads)
footprint L-DIP-M-10 (THT Inductor, 2-Leads, Body 10,0  mm)
footprint L-DIP-M-10x5 (Body 10x5mm, 2 leads)
footprint L-DIP-M-10.5x5.5 (Body 10.5x5.5mm, 2 leads)
footprint L-DIP-M-11.5x5 (Body 11.5x5mm, 2 leads)
footprint L-DIP-M-12x5 (Body 12x5.5mm, 2 leads)
footprint L-DIP-M-12x5.5 (Body 12x5.5mm, 2 leads)
footprint L-DIP-M-12x6 (Body 12x6mm, 2 leads)
footprint L-DIP-M-13.5x6 (Body 13.5x6mm, 2 leads)
footprint L-DIP-M-13.5x6.5 (Body 13.5x6.5mm, 2 leads)
footprint L-DIP-M-13.5x7 (Body 13.5x7mm, 2 leads)
footprint L-DIP-M-14x7 (Body 14x7mm, 2 leads)
footprint L-DIP-M-16x9 (Body 16x9mm, 2 leads)
footprint L-DIP-M-15x7 (Body 15x7mm, 2 leads)
footprint L-DIP-M-15.5x8 (Body 15.5x8mm, 2 leads)
footprint L-DIP-M-16x8.5 (Body 16x8.5mm, 2 leads)
footprint L-DIP-M-16.5x8.5 (Body 16.5x8.5mm, 2 leads)
footprint L-DIP-M-17.5x8.5 (Body 17.5x8.5mm, 2 leads)
footprint L-DIP-M-17.5x9 (Body 17.5x9mm, 2 leads)
footprint L-DIP-M-17.5x13 (Body 17.5x13mm, 2 leads)
footprint L-DIP-M-18x9 (Body 18x9mm, 2 leads)
footprint L-DIP-M-18.5x8 (Body 17.5x8mm, 2 leads)
footprint L-DIP-M-18.5x8.5 (Body 18.5x8.5mm, 2 leads)
footprint L-DIP-M-18.5x9 (Body 18.5x9.5mm, 2 leads)
footprint L-DIP-M-18.5X9.5 (Body 18.5x9.5mm, 2 leads)
footprint L-DIP-M-19x10.5 (Body 19x10.5mm, 2 leads)
footprint L-DIP-M-25x12 (Body 25x12mm, 2 leads)
footprint L-DIP-M-21x11 (Body 21x11mm, 2 leads)
footprint L-DIP-M-25x11 (Body 25x11mm, 2 leads)
footprint L-DIP-M-26x12 (Body 26x12mm, 2 leads)
footprint L-DIP-M-25x13 (Body 25x13mm, 2 leads)
footprint L-DIP-M-27.5x13 (Body 27.5x13mm, 2 leads)
footprint L-DIP-M-28.5x15 (Body 28.5x15mm, 2 leads)
footprint L-DIP-M-31x13
footprint L-DIP-M-38x17 (Body 38x17mm, 2 leads)
footprint RES-1/2W
footprint RES-1/8W-SMALL (R 1/8W, 2 pin, 200mil)
footprint RES-1W
footprint RES-2W (R2W, 2 pin, 700mil)
pins: 1, 2

## L-DIP-2
designator L?, comment 10.0 µH
partNo: 744284100; Manufacturer: Würth Elektronik eiSos GmbH; Inductance: 10.0 µH; ComponentLink1Description: Manufacturer; ComponentLink1URL: http://www.we-online.de; Created by: Christin Zierenner; Created Date: March 2012; ComponentLink2Description: Datasheet; ComponentLink2URL: http://www.we-online.de/katalog/media/pdf/744284100.pdf
footprint L-DIP-D-14x7.5 (THT-4pin- Body 14x7.5mm)
footprint L-DIP-D-15x7.5 (THT Inductor, 2-Leads, Body 15,0x7,5mm)
footprint L-DIP-D-17.5x13 (THT Inductor, 4-Leads, Body 17,5x13,0mm)
footprint L-DIP-D-25x17 (THT Inductor, 4-Leads, Body 25,0x17,0mm)
footprint L-DIP-D-27.5x18.5 (THT Inductor, 4-Leads, Body 27,5x18,5mm)
footprint L-DIP-D-30x19 (THT-4pin- Body 30x19mm)
footprint L-DIP-D-33x19 (THT-4pin- Body 33mmx19mm)
footprint L-DIP-D-36x23 (THT-4pin- Body 36mmx23mm)
footprint L-DIP-D-46x27 (THT-4pin- Body 46mmx27mm)
footprint L-DIP-D-47x27 (THT-4pin- Body 47mmx27mm)
pins: 1, 2, 3, 4

## L-DIP-220
designator L?, comment L
Inductor; Value: Loc 220; Designed by: VanDungEvn
footprint L-DIP-220 (Loc 220)
pins: 1, 2, 3, 4

## L-SMD-1
designator L?, comment 1.0 μH
partNo: 78477010; Manufacturer: Wurth Elektronik; Inductance: 1.0 μH; ComponentLink1Description: Manufacturer; ComponentLink1URL: http://www.we-online.de; Created by: Baojun Chen; Created Date: Nov.2015; ComponentLink2Description: Datasheet; ComponentLink2URL: http://katalog.we-online.de/pbs/datasheet/78477010.pdf
footprint L-SMD-M-7.3x4.5 (WE-PDA SMD Shielded Power Inductor, 7345)
footprint L-SMD-M-12x10 (WE-PDA SMD Shielded Power Inductor, 1210)
pins: 1, 2

## L-SMD-2
designator L?, comment 2.20 µH
partNo: 7448709022; Manufacturer: Würth Elektronik eiSos GmbH; Inductance: 2.20 µH; ComponentLink1Description: Manufacturer; ComponentLink1URL: http://www.we-online.de; Created by: Christin Otto; Created Date: August 2013; ComponentLink2Description: Datasheet; ComponentLink2URL: http://katalog.we-online.de/pbs/datasheet/7448709022.pdf
footprint L-SMD-D-7.3x7.3 (SMD Inductor,  4-Leads, Body 7.3x7.3mm (max))
footprint L-SMD-D-12.5x12.5 (SMD Inductor, 4-Leads, Body 12.5x12.5mm (max))
pins: 1, 2, 3, 4
text: L1; L2

## LA1260
designator U?
footprint DIP16
pins: 1, 2, 3, 4, 5, 6, 7, 8, 9, 10, 11, 12, 13, 14, 15, 16

## LA4440
designator IC?
Manufacturer: W¨¹rth Elektronik eiSos GmbH; partNo: 613014143121; ComponentLink1 Description: Manufacturer; ComponentLink2 Description: Datasheet; NoPins: 14; Created Date: 29 March 2013; ComponentLink1URL: http://www.we-online.com; ComponentLink2URL: http://katalog.we-online.de/em/datasheet/6130xx143121.pdf; Created by: Karrer Zheng
footprint JP14-C1T (14 row, straight, gold plating)
footprint LA4440
pins: 1, 2, 3, 4, 5, 6, 7, 8, 9, 10, 11, 12, 13, 14

## LCD16x2A
designator LCD?, comment LCD 16x2A
LCD dipslay 16 char, 2 line; Value: LCD16x2A
footprint JP16-C1T (16 row, straight, gold plating)
footprint LCD16X2N (LCD dipslay 16x2, 16 pin)
footprint LCD16X2 (LCD dipslay 16x2, 16 pin)
pins: 1 GND, 2 VDD, 3 VEE, 4 RS, 5 R/~{W}, 6 ~{EN}, 7 D0, 8 D1, 9 D2, 10 D3, 11 D4, 12 D5, 13 D6, 14 D7, 15 A, 16 K
text: 5V; Vs; |; 0V; R/W; E

## LCD20x4A
designator LCD, comment LCD 20x4A
LCD dipslay 20 char, 4 line; Value: Jum 40; Value: LCD 20x4A
footprint LCD20X4A (LCD dipslay 20x4, 16 pin)
footprint JP16-C1T (16 row, straight, gold plating)
pins: 1 GND, 2 VDD, 3 VSS, 4 RS, 5 R/~{W}, 6 ~{EN}, 7 D0, 8 D1, 9 D2, 10 D3, 11 D4, 12 D5, 13 D6, 14 D7, 15 A, 16 K

## LCD128x64
designator LCD?
LCD Graphic 128x64; Value: LCD 128x64
footprint LCD128x64 (LCD Graphic 128x64, 20 pin)
footprint JP20-C1T (20 row, straight, gold plating)
pins: 1 GND, 2 VDD, 3 VSS, 4 RS, 5 R/~{W}, 6 ~{EN}, 7 D0, 8 D1, 9 D2, 10 D3, 11 D4, 12 D5, 13 D6, 14 D7, 15 S1, 16 S2, 17 ~{RES}, 18 VEE, 19 A, 20 K
text: GLCD 128X64

## LCD TFT 2.2
designator LCD?
Manufacturer: W¨¹rth Elektronik eiSos GmbH; partNo: 613009143121; ComponentLink1 Description: Manufacturer; ComponentLink2 Description: Datasheet; NoPins: 09; Created Date: 29 March 2013; ComponentLink1URL: http://www.we-online.com; ComponentLink2URL: http://katalog.we-online.de/em/datasheet/6130xx143121.pdf; Created by: Karrer Zheng
footprint LCD TFT 2.2
footprint JP9-C1T (9 row, straight, gold plating)
pins: 1 VCC, 2 GND, 3 CS, 4 RST, 5 D/C, 6 SDI, 7 SCK, 8 LED, 9 SDO
text: LCD TFT 2.2 Inch

## LCD-GPHONE
designator C?, comment GPHONE
Manufacturer: W¨¹rth Elektronik eiSos GmbH; partNo: 613010143121; ComponentLink1 Description: Manufacturer; ComponentLink2 Description: Datasheet; NoPins: 10; Created Date: 29 March 2013; ComponentLink1URL: http://www.we-online.com; ComponentLink2URL: http://katalog.we-online.de/em/datasheet/6130xx143121.pdf; Created by: Karrer Zheng
footprint LCD-GPHONE (10p, 1 row, straight, gold plating)
pins: 1 GND, 2 2.5V, 3 ~{CS}, 4 SDA, 5 LA, 6 LK, 7 ~{C}/~{D}, 8 SCK, 9 ~{RST}, 10 GND
text: LCD GRAPHIC 12864 SPI; GPHONE (ZTE)

## LDR
designator LDR?
Quang Tro
footprint CDS (Footprint not found)
pins: 1 A, 2 K

## LED
designator LED?  (value not drawn)
LED Single colour Green and Red; Value: LED 3 ly Single Colour
footprint LED-5-BLUE (LED 2 PIN, 5 ly , Only colour, pin to pin 110mil)
footprint LED-5-Green (LED 2 PIN, 5 ly , Only colour,pin to pin 100mil)
footprint LED-5-RED (LED 2 PIN, 5 ly , Only colour,pin to pin 100mil)
footprint LED-5-WHITE (LED 2 PIN, 5 ly , Only colour, pin to pin 110mil)
footprint LED-5-Yellow (LED 2 PIN, 5 ly , Only colour,pin to pin 100mil)
footprint LED-3MM-YELLOW
footprint LED-3MM-RED
footprint LED-3MM-GREEN
footprint LED-3MM-BLUE
footprint LED-5MM-BLUE
footprint LED-5MM-GREEN
footprint LED-5MM-ORANGE
footprint LED-5MM-RED
footprint LED-5MM-WHITE
footprint LED-5MM-YELLOW
footprint LED-3MM-WHITE (LED 2 PIN, 3ly Only colour)
pins: 1, 2

## LED2
designator LED?, comment LED  (value not drawn)
LED 2 colour Green and Red; Value: LED 3 - 5 ly 2 Colour
footprint LED-32 (LED 3 PIN, 3ly Two colour)
footprint LED-52 (LED 3 PIN, 5 ly , Two colour)
pins: 1, 2, 3

## LED7SEG-1
designator DS?, comment 7SEG
14.2 mm General Purpose Blue 7-Segment Display: CC, RH DP, Gray Surface; MinimumIntensity: 2020 ucd; Note: IF = 10 mA; Published: 8-Jun-2000; LatestRevisionDate: 17-Dec-2003; LatestRevisionNote: Schematic revised, PCB Footprint replaced.; DatasheetDocument: 24-Sep-2002; PackageDocument: 24-Sep-2002; PackageReference: H; Publisher: Altium Limited; Colour: Blue; ComponentLink1Description: Manufacturer Link; ComponentLink1URL: http://www.agilent.com/
footprint LED7SEG-1-0.56
footprint LED7SEG-1-1.5
pins: 1 e, 2 d, 3 Vcc, 4 c, 5 h, 6 b, 7 a, 8 Vcc, 9 f, 10 g

## LED7SEG-1-0.28
designator DS?
8 mm Black Surface Ultra Mini AlGaAs Red 7-Segment Display: CA, RH DP; Published: 26-May-2004; LatestRevisionDate: 11-Oct-2004; LatestRevisionNote: Display outline superimposed on PCB Footprint.; DatasheetVersion: 26-Jul-2001; PackageVersion: 26-Jul-2001; PackageReference: U; Publisher: Altium Limited; PackageDescription: LED, 7-Segment Display, 8 mm, RHD; 10 Leads; Row Space 5.31 mm; Pitch 2.01 mm; ComponentLink1Description: Manufacturer Link; ComponentLink1URL: http://www.avagotech.com/; ComponentLink2Description: Datasheet; ComponentLink2URL: http://cp.literature.agilent.com/litweb/pdf/5988-2220EN.pdf
footprint LED7SEG-1-0.28
pins: 1 a "Cathode", 2 f "Cathode", 3 g "Cathode", 4 e "Cathode", 5 d "Cathode", 6 DP "Cathode", 7 DP "Anode", 8 c "Cathode", 9 A "Anode", 10 b "Cathode"

## LED7SEG-1-0.36T
designator DS?
7.6 mm Micro Bright Green 7-Segment Display: CA, RH DP; Note: Pins 1 and 6 are redundant Anodes.; Published: 26-May-2004; LatestRevisionDate: 11-Oct-2004; LatestRevisionNote: Display outline superimposed on PCB Footprint.; DatasheetVersion: 11-Feb-2002; PackageVersion: 11-Feb-2002; PackageReference: A; Publisher: Altium Limited; PackageDescription: LED, 7-Segment Display, 7.62 mm, RHD; 10 Leads; Row Space 5.08 mm; Pitch 2.54 mm; ComponentLink1Description: Manufacturer Link; ComponentLink1URL: http://www.avagotech.com/; ComponentLink2Description: Datasheet; ComponentLink2URL: http://cp.literature.agilent.com/litweb/pdf/5988-4434EN.pdf
footprint LED7SEG-1-0.36T
pins: 1 A "Anode", 2 f "Cathode", 3 g "Cathode", 4 e "Cathode", 5 d "Cathode", 6 A "Anode", 7 DP "Cathode", 8 c "Cathode", 9 b "Cathode", 10 a "Cathode"

## LED7SEG-2
designator DS?
9.2 mm Green 7-Segment Display: 2-Digit, RH DP; Published: 26-May-2004; LatestRevisionDate: 11-Oct-2004; LatestRevisionNote: Display outline superimposed on PCB Footprint.; DatasheetVersion: 14-Mar-2003; PackageVersion: 14-Mar-2003; PackageReference: HDSM-577; Publisher: Altium Limited; PackageDescription: LED, 7-Segment Display, 9.2 mm, Dual Digit; 10 Leads; Row Space 10.7 mm; Pitch 2.54 mm; ComponentLink1Description: Manufacturer Link; ComponentLink1URL: http://www.avagotech.com/
footprint LED7SEG-2-0.36 (LED, 7-Segment Display, 9.2 mm, Dual Digit; 10 Leads; Row Space 10.7 mm; Pitch 2.54 mm)
pins: 1 g "Digits (1&2) Cathode", 2 DP "Digits (1&2) Cathode", 3 a "Digits (1&2) Cathode", 4 f "Digits (1&2) Cathode", 5 A2 "Common Anode", 6 d "Digits (1&2) Cathode", 7 e "Digits (1&2) Cathode", 8 c "Digits (1&2) Cathode", 9 b "Digits (1&2) Cathode", 10 A1 "Common Anode"
text: DIG1; DIG2

## LED7SEG-4
designator DS?, comment 7SEGQ
Four 7 Seg Dipslay; Value: LED 7Q SEG
footprint LED7SEG-4-0.56 (DIP 12 Leads; Body 48 x 20 mm; Pitch 0.5 mm)
footprint LED7SEG-4-0.36 (DIP 12 Leads; Body 32x 15 mm; Pitch 0.5 mm)
pins: 1 e, 2 d, 3 h, 4 c, 5 g, 6 V4, 7 b, 8 V3, 9 V2, 10 f, 11 a, 12 V1

## LED7SEG-4-RG
designator L?, comment Led 7 Seg 4 digit - Anode  (value not drawn)
footprint LED7SEG-4-0.56-RG
pins: 1 e "Cathode", 2 d "Cathode", 3 DP "Cathode", 4 c "Cathode", 5 g "Cathode", 6 L4 "Common Anode", 7 D+ "Common Anode", 8 D- "Common Anode", 9 b "Cathode", 10 L3 "Common Anode", 11 L2 "Common Anode", 12 f "Cathode", 13 a "Cathode", 14 L1 "Common Anode"

## LED10
designator LDD?, comment LED DIP 8  (value not drawn)
LED10; Value: LED DIP 8
footprint LEDBAR-10-RED
pins: 1, 2, 3, 4, 5, 6, 7, 8, 9, 10, 11, 12, 13, 14, 15, 16, 17, 18, 19, 20

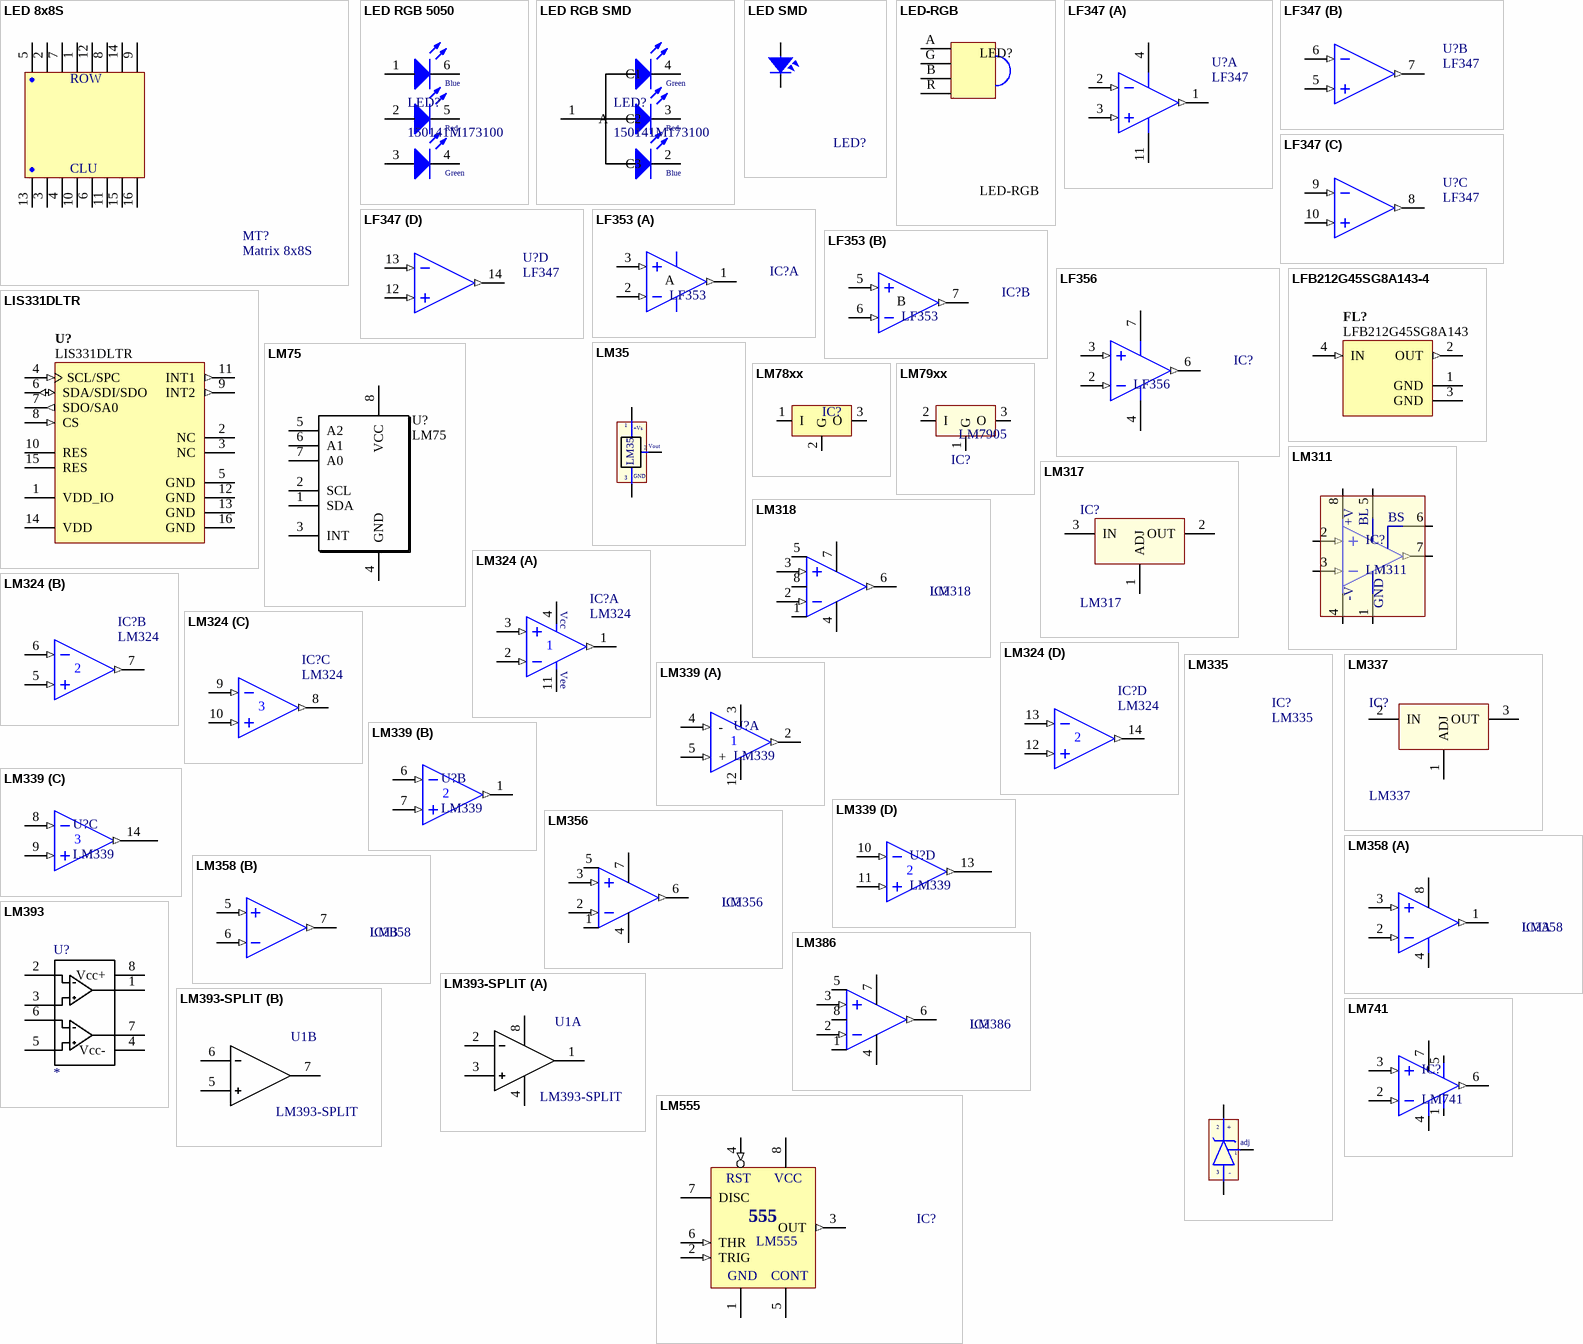
[diagram p32: symbols LED 8x8S to LM741]

## LED 8x8S
designator MT?, comment Matrix 8x8S
Matrix 8x8,  Single colour; Value: Matrix 8x8S
footprint Matrix
pins: 1 H4, 2 H2, 3 C2, 4 C3, 5 H1, 6 C5, 7 H3, 8 H6, 9 H8, 10 C4, 11 C6, 12 H5, 13 C1, 14 H7, 15 C7, 16 C8
text: ROW; CLU

## LED RGB 5050
designator LED?, comment 150141M173100
Manufacturer: Würth Elektronik eiSos GmbH; Color: Red & Green & Blue; PartNo: 150141M173100; ComponentLink1Description: Manufacturer; ComponentLink1URL: http://www.we-online.de; Created by: Christin Otto; Created Date: June 2013; ComponentLink2Description: Datasheet; ComponentLink2URL: http://katalog.we-online.com/led/datasheet/150141M173100.pdf
footprint LED RGB 5050
pins: 1, 2, 3, 4, 5, 6
1 alternate drawing of the same symbol
text: Blue; Red; Green

## LED RGB SMD
designator LED?, comment 150141M173100
SMD Full-Color Top LED, WL-SFTW, Red & Green & Blue; Manufacturer: Würth Elektronik eiSos GmbH; PartNo: 150141M173100; ComponentLink1Description: Manufacturer; ComponentLink1URL: http://www.we-online.de; Created by: Christin Otto; Created Date: June 2013; ComponentLink2Description: Datasheet; ComponentLink2URL: http://katalog.we-online.com/led/datasheet/150141M173100.pdf; Color: Red & Green & Blue
footprint LED RGB 3528 (Chip LED, 4-Leads, Body 2.8x3.5mm (max), Pitch 1.42mm, IPC Medium Density)
pins: 1 A, 2 C3, 3 C2, 4 C1
1 alternate drawing of the same symbol
text: Green; Red; Blue

## LED SMD
designator LED?, comment LED  (value not drawn)
Value: LED 3 - 5 ly 2 Colour
footprint LED 3512
footprint LED-0805-Blue
footprint LED-0805-Green
footprint LED-0805-Orange
footprint LED-1206-Blue (Compoment SMD 120x60mil)
footprint LED-0805-Yellow
footprint LED-0805-Red
footprint LED-1206-Green
footprint LED-1206-Orange
footprint LED-1206-Red
footprint LED-1206-Yellow
footprint LED-BLUE 0805
footprint LED-GREEN-0805
footprint LED-ORANGE-0805
footprint LED-RED-0805
footprint LED-WHITE-0805
footprint LED-YELLOW-0805
pins: 1, 2

## LED-RGB
designator LED?
footprint LED-5MMRGBCA
footprint LED RGB-5MM-RA (LED RGB Right Angle 5mm)
pins: A, B, G, R

## LF347
designator U?
Low Power Quad Operational Amplifier; Manufacturer Part Number: LF347BD; Manufacturer: Texas Instruments; Text Field1: pristel=Nsc\nsanopea\<parttype>.ckt; Slew Rate: 13 V/µs; Voltage - Supply, Single/Dual (±): 7 V ~ 36 V, ±3.5 V ~ 18 V; Current - Input Bias: 50pA; Voltage - Input Offset: 3000µV; Number of Circuits: 4; Gain Bandwidth Product: 3MHz; Amplifier Type: J-FET; Current - Supply: 8mA; Supplier 1: Digi-Key; Supplier Part Number 1: 296-7136-5-ND; Package / Case: 14-SOIC (3.9mm Width), 14-SOL; Supplier: Digi-Key; Current - Output / Channel: -; Packaging: Tube; RoHS: RoHS Compliant; Output Type: -; Operating Temperature: 0°C ~ 70°C; Category: Integrated Circuits (ICs); Supplier Part Number: 296-7136-5-ND
footprint SO14
footprint DIP14
part A pins: 1 1 OUT (out), 2 1 IN- (in), 3 1 IN+ (in), 4 VCC (power), 11 VEE (power)
part B pins: 5 2 IN+ (in), 6 2 IN- (in), 7 2 OUT (out)
part C pins: 8 3 OUT (out), 9 3 IN- (in), 10 3 IN+ (in)
part D pins: 12 4 IN+ (in), 13 4 IN- (in), 14 4 OUT (out)

## LF353
designator IC?
Wide-Bandwidth Dual JFET Input Operational Amplifier; Published: 15-Apr-2002; LatestRevisionDate: 06-Jun-2005; LatestRevisionNote: Stylized 3D Model Added.; DatasheetDocument: Apr-1998; PackageDocument: Sep-1997; Publisher: Altium Limited; ComponentLink1Description: Manufacturer Link; ComponentLink1URL: http://www.national.com/; ComponentLink2Description: Datasheet; ComponentLink2URL: http://www.national.com/ds.cgi/LF/LF353.pdf; ComponentLink3Description: URL Link1; ComponentLink3URL: http://www.national.com/pf/LF/LF353.html; Value: LF353
footprint DIP8
footprint SO8
part A pins: 1 OUT (out), 2 IN- (in), 3 IN+ (in)
part B pins: 5 IN+ (in), 6 IN- (in), 7 OUT (out)
part A text: A
part B text: B

## LF356
designator IC?
Wide-Bandwidth Single JFET Input Operational Amplifier; Published: 15-Apr-2002; LatestRevisionDate: 06-Jun-2005; LatestRevisionNote: Stylized 3D Model Added.; DatasheetDocument: Apr-1998; PackageDocument: Sep-1997; Publisher: Altium Limited; ComponentLink1Description: Manufacturer Link; ComponentLink1URL: http://www.national.com/; ComponentLink2Description: Datasheet; ComponentLink2URL: http://www.national.com/ds.cgi/LF/LF353.pdf; ComponentLink3Description: URL Link1; ComponentLink3URL: http://www.national.com/pf/LF/LF353.html; Value: LF356
footprint DIP8
footprint SO8
pins: 2 IN- (in), 3 IN+ (in), 4 V- (power), 6 OUT (out), 7 V+ (power)

## LFB212G45SG8A143-4
designator FL?, comment LFB212G45SG8A143
LFB21(0805)_SG Series Filter for Wireless LAN/Bluetooth, 2400-2500 MHz, 2 x 1.25 x 0.95 mm; Manufacturer: Murata; Attenuation (Absolute Value) II) (dB): 30 min. at 1710~1990MHz; Nominal Center Frequency (fo): 2450 MHz; Attenuation (Absolute Value) I) (dB): 20 min. at 880-1710 MHz; Insertion Loss in BW (dB) max: 2.7; Packing: Tape and Reel; Bandwidth (BW): 2450 +/-50MHz; ComponentLink1Description: Manufacturer URL; DatasheetVersion: Dec-10; ComponentLink3Description: Package Specification; ComponentLink1URL: http://www.murata.com/; PartNumber: LFB212G45SG8A143; Mounting Technology: Surface Mount; PackageDescription: 4-Pin Hand drawn, Body 2x1.25mm; ComponentLink2Description: Datasheet; PackageReference: LFB212G45SG8A143-4; ComponentLink2URL: http://www.murata.com/products/catalog/pdf/k99/k99e_l0270.pdf; ComponentLink3URL: http://search.murata.co.jp/Ceramy/CatalogAction.do?sHinnm=?%C2%A0&sNHinnm=LFB212G45SG8A143&sNhin_key=LFB212G45SG8A143&sLang=en&sParam=LFB21
footprint MUR-LFB212G45SG8A143-4 (Hand Drawn, 4-Leads, Body 2x1.25mm)
pins: 1 GND (power), 2 OUT (out), 3 GND (power), 4 IN (in)

## LIS331DLTR
designator U?
MEMS motion sensor 3-axis - ± 2g/± 8g smart digital output nano accelerometer, -40 to +85°C, LGA-16 (3x3x1), Tape and Reel; Manufacturer: STMicroelectronics; ComponentLink3URL: http://www.st.com/internet/analog/product/191236.jsp; PackageVersion: 2008; ComponentLink2Description: LIS331DL Datasheet; ComponentLink1Description: Manufacturer URL; ComponentLink2URL: http://www.st.com/internet/com/TECHNICAL_RESOURCES/TECHNICAL_LITERATURE/DATASHEET/CD00172345.pdf; RevisionNote: PCB layout corrected.; PackageDescription: 16-Pin Land Grid Array, 3 x 3 x 1 mm Body, 0.5 mm Pitch; DatasheetVersion: rev3, Apr-2008; ComponentLink3Description: LIS331DL Web Page; PackageReference: LGA16-3X3X1; ComponentLink1URL: http://www.st.com/
footprint QFN16 (PQFN, 16-Leads, Body 3x3mm, Pitch 0.5mm, IPC High Density)
pins: 1 VDD_IO (power), 2 NC, 3 NC, 4 SCL/SPC (in), 5 GND (power), 6 SDA/SDI/SDO (io), 7 SDO/SA0 (out), 8 CS (in), 9 INT2 (out), 10 RES, 11 INT1 (out), 12 GND (power), 13 GND (power), 14 VDD (power), 15 RES, 16 GND (power)

## LM35
designator U?
Teminal; Value: LM35
footprint TO92-123 (TO-92)
footprint JP3-C1T (3 row, straight, gold plating)
pins: 1 +Vs, 2 Vout, 3 -
text: GND

## LM75
designator U?
footprint SO8
footprint DIP8
footprint MSOP8 (MSOP, 8-Leads, Body 3.00x3.00mm, Pitch 0.65mm, IPC High Density)
pins: 1 SDA, 2 SCL, 3 INT, 4 GND, 5 A2, 6 A1, 7 A0, 8 VCC

## LM78xx
designator IC?  (value not drawn)
Positive Voltage Regulator; Note: Tab is connected to pin 3 (GND).; Published: 24-Aug-2001; LatestRevisionDate: 17-Jul-2002; LatestRevisionNote: Re-released for DXP Platform.; DatasheetVersion: Apr-1994; PackageVersion: Jul-1998; PackageReference: ISOWATT220AB; Publisher: Altium Limited; PackageDescription: TO, Thru-Hole, Vertical, Heatsink Mounted; 3 In-Line Leads; Pitch 2.54 mm; Pin sequence 1, 3, 2; ComponentLink1Description: Manufacturer Link; ComponentLink1URL: http://www.st.com/; ComponentLink2Description: Datasheet; ComponentLink2URL: http://www.st.com/stonline/products/literature/ds/2146/l78m05c.pdf
footprint TO220-123 (TO-220 - 1-2-3)
footprint TO220H2 (TO-220 - 1-2-3)
footprint TO220H1 (TO-220 - 1-2-3)
footprint TO220NH (TO-220 - 1-2-3)
footprint TO252-123
footprint SOT223-321
footprint TO92-321 (TO-92)
footprint SOT89-321 (SOT89, 3-Leads, Body 4.55x2.55mm, Pitch 1.50mm, Lead Span 4.1mm, IPC Medium Density)
pins: 1 I (power), 2 G (power), 3 O (power)

## LM79xx
designator IC?, comment LM7905
On ap -, from - 5 to - 24VDC; Value: LM7905
footprint TO220H2 (TO-220 - 1-2-3)
footprint TO220H3 (TO-220 1-2-3)
footprint TO220H3 (TO-220 1-2-3)
footprint TO220-123 (TO-220 - 1-2-3)
footprint TO220H1 (TO-220 - 1-2-3)
footprint TO252-123
footprint TO92-123 (TO-92)
footprint SOT89-123 (SOT89, 3-Leads, Body 4.55x2.55mm, Pitch 1.50mm, Lead Span 4.1mm, IPC Medium Density)
pins: 1 G, 2 I, 3 O

## LM311
designator IC?
Voltage Comparator; Value: DIP 8; Value: LM311
footprint DIP8
footprint SO8
pins: 1 F2 (power), 2 IN+ (in), 3 IN- (in), 4 GND (power), 5 F1 (power), 6 F2 (power), 7 OUT (out), 8 V+ (power)
text: +V; BL; BS; -V

## LM317
designator IC?
Adj Voltage +1.2 -> +37V; Value: LM317
footprint TO220NH (TO-220 - 1-2-3)
footprint TO92-312 (TO-92)
footprint TO220H1 (TO-220 - 1-2-3)
footprint TO220H2 (TO-220 - 1-2-3)
footprint TO220H3 (TO-220 1-2-3)
pins: 1 ADJ, 2 OUT, 3 IN

## LM318
designator IC?
Low-Power Dual Operational Amplifier; Value: LM358
footprint DIP8
footprint SO8
pins: 1 -V, 2 IN- (in), 3 IN+ (in), 4 -V, 5 -V, 6 OUT (out), 7 +V, 8 -V

## LM324
designator IC?
Op x 4; Value: LM324
footprint DIP14
footprint SO14
footprint TSSOP14 (TSSOP, 14-Leads, Body 5.00x4.40mm, Pitch 0.65mm, IPC High Density)
part A pins: 1 OUT (out), 2 IN- (in), 3 IN+ (in), 4 V+ (power), 11 V- (power)
part B pins: 5 IN+ (in), 6 IN- (in), 7 OUT (out)
part C pins: 8 OUT (out), 9 IN- (in), 10 IN+ (in)
part D pins: 12 IN+ (in), 13 IN- (in), 14 OUT (out)
part A text: Vcc; Vee

## LM335
designator IC?
Teminal; Value: LM335
footprint TO92-123 (TO-92)
pins: 1 adj, 2 +, 3 -

## LM337
designator IC?
On ap (-)     -1.2 -> - 37V; Value: LM337
footprint TO220H1 (TO-220 - 1-2-3)
footprint TO220H3 (TO-220 1-2-3)
footprint TO220H2 (TO-220 - 1-2-3)
footprint TO220NH (TO-220 - 1-2-3)
footprint TO220-123 (TO-220 - 1-2-3)
pins: 1 ADJ, 2 IN, 3 OUT

## LM339
designator U?
Low Power Low Offset Voltage Quad Comparators
footprint DIP14
footprint SO14
part A pins: 2 OUT (out), 3 VCC (power), 4 - (in), 5 + (in), 12 GND (power)
part B pins: 1 OUT (out), 6 IN- (in), 7 IN+ (in)
part C pins: 8 OUT (in), 9 IN- (in), 14 15 (out)
part D pins: 10 IN- (in), 11 IN+ (in), 13 15 (out)

## LM356
designator IC?
Low-Power Dual Operational Amplifier; Value: LM358
footprint DIP8
footprint SO8
pins: 1 -V, 2 IN- (in), 3 IN+ (in), 4 -V, 5 -V, 6 OUT (out), 7 +V

## LM358
designator IC?
Low-Power Dual Operational Amplifier; Value: LM358
footprint DIP8
footprint SO8
part A pins: 1 OUT (out), 2 IN- (in), 3 IN+ (in), 4 -V, 8 +V
part B pins: 5 IN+ (in), 6 IN- (in), 7 OUT (out)

## LM386
designator IC?
Low-Power Dual Operational Amplifier; Value: LM358
footprint DIP8
footprint SO8
pins: 1 -V, 2 IN- (in), 3 IN+ (in), 4 -V, 5 -V, 6 OUT (out), 7 +V, 8 -V

## LM393
designator U?
IC DUAL COMPARATOR
footprint SO8 (SOIC, 8-Leads, Body 4.9x3.9mm, Pitch 1.27mm, IPC High Density)
footprint DIP8
pins: 1, 2, 3, 4 Vcc-, 5, 6, 7, 8 Vcc+

## LM393-SPLIT
designator U1
IC DUAL COMPARATOR; Supplier 1: Digi-Key; Supplier Part Number 1: LM393MXFSDKR-ND
footprint SO8 (SOIC, 8-Leads, Body 4.9x3.9mm, Pitch 1.27mm, IPC High Density)
footprint DIP8
part A pins: 1, 2, 3, 4 Vcc-, 8 Vcc+
part B pins: 5, 6, 7

## LM555
designator IC?
Timer; Value: LM555
footprint DIP8
footprint SO8 (SOIC, 8-Leads, Body 4.9x3.9mm, Pitch 1.27mm, IPC High Density)
footprint TSSOP8 (TSSOP, 8-Leads, Body 3.00x4.40mm, Pitch 0.65mm, IPC Medium Density)
pins: 1 GND (power), 2 TRIG (in), 3 OUT (out), 4 RST (in), 5 CONT, 6 THR (in), 7 DISC (oc), 8 VCC (power)
text: 555

## LM741
designator IC?
Single OA
footprint DIP8
footprint SO8
pins: 1 Vos, 2 IN- (in), 3 IN+ (in), 4 -V, 5 Vos, 6 OUT (out), 7 +V

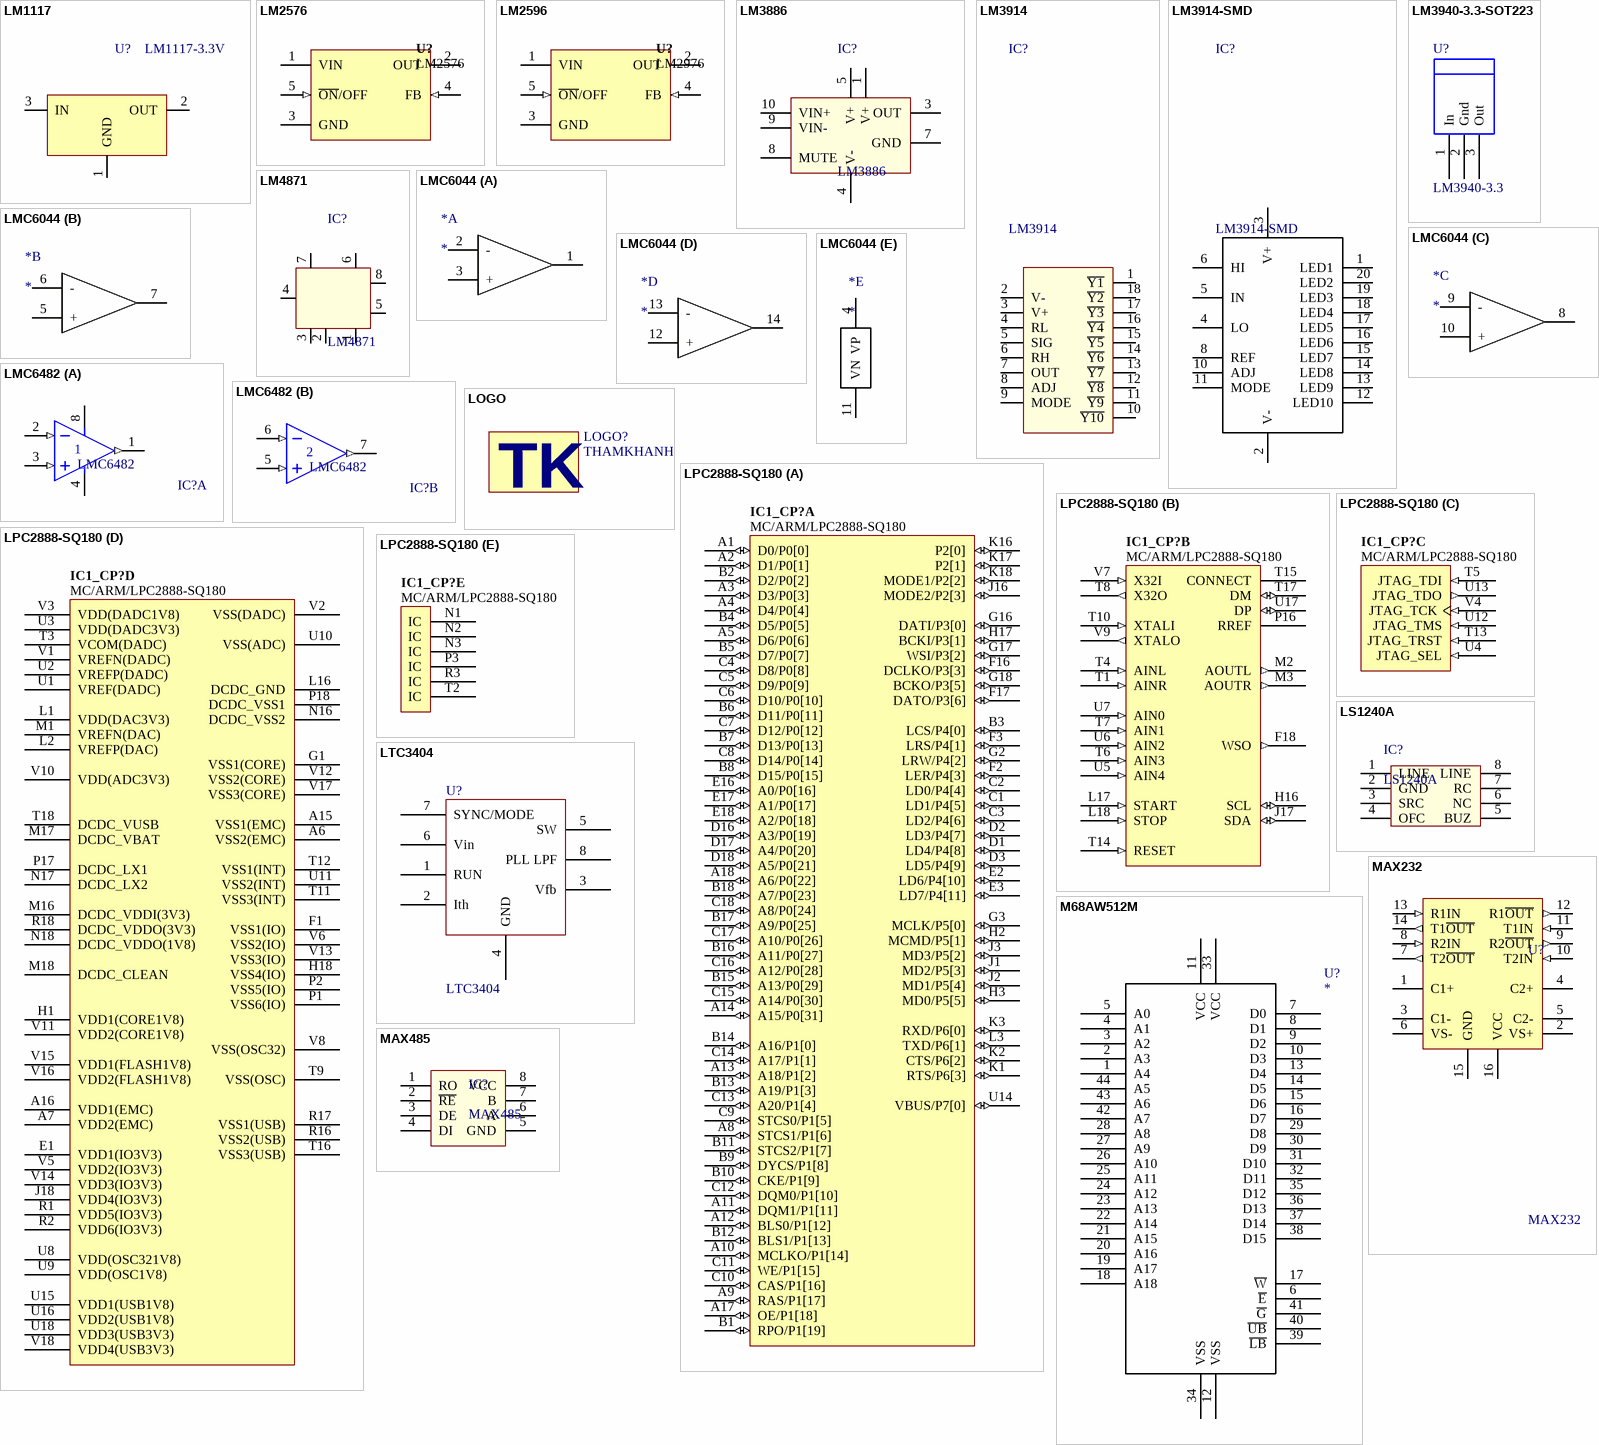
[diagram p33: symbols LM1117 to MAX485]

## LM1117
designator U?, comment LM1117-3.3V
800mA Low-Dropout Linear Regulator; Creator: Nguyen Ba Bien; Website: http://group3i.net
footprint SOT223
footprint TO220H1 (TO-220 - 1-2-3)
footprint TO220-123 (TO-220 - 1-2-3)
footprint TO220H2 (TO-220 - 1-2-3)
footprint TO220NH (TO-220 - 1-2-3)
footprint TO220H3 (TO-220 1-2-3)
pins: 1 GND, 2 OUT, 3 IN

## LM2576
designator U?
Max Input Voltage: 12 V; Max Output Current: 3 (6.0 peak) A; Max Output Voltage: mV; Category: IC-Power; Min Input Voltage: mV; Min Output Voltage: mV; Mounting Technology: Surface Mount; Status: Unreleased; Supply Voltage: mV; Temperature Range: -40 to +125 degC
footprint TO263
footprint DIP5
footprint DIP5-T
pins: 1 VIN (power), 2 OUT (power), 3 GND (power), 4 FB (in), 5 ~{ON}/OFF (in)

## LM2596
designator U?, comment LM2976
Max Input Voltage: 12 V; Max Output Current: 3 (6.0 peak) A; Max Output Voltage: mV; Category: IC-Power; Min Input Voltage: mV; Min Output Voltage: mV; Mounting Technology: Surface Mount; Status: Unreleased; Supply Voltage: mV; Temperature Range: -40 to +125 degC
footprint TO263
footprint DIP5
footprint DIP5-T
pins: 1 VIN (power), 2 OUT (power), 3 GND (power), 4 FB (in), 5 ~{ON}/OFF (in)

## LM3886
designator IC?
Value: TDA1557Q
footprint DIP11
pins: 1 V+, 3 OUT, 4 V-, 5 V+, 7 GND, 8 MUTE, 9 VIN-, 10 VIN+

## LM3914
designator IC?
Value: LM3914
footprint DIP18 (DIP; 18 Leads; Row Spacing 7.62 mm; Pitch 2.54 mm)
pins: 1 ~{Y1}, 2 V-, 3 V+, 4 RL, 5 SIG, 6 RH, 7 OUT, 8 ADJ, 9 MODE, 10 ~{Y10}, 11 ~{Y9}, 12 ~{Y8}, 13 ~{Y7}, 14 ~{Y6}, 15 ~{Y5}, 16 ~{Y4}, 17 ~{Y3}, 18 ~{Y2}

## LM3914-SMD
designator IC?
LM3914; Value: LM3914
footprint PLCC20 (Leaded Chip Carrier, 20-Leads, Body 9.90x9.90mm, Pitch 1.270mm, IPC Medium Density)
pins: 1 LED1, 2 V-, 3 V+, 4 LO, 5 IN, 6 HI, 8 REF, 10 ADJ, 11 MODE, 12 LED10, 13 LED9, 14 LED8, 15 LED7, 16 LED6, 17 LED5, 18 LED4, 19 LED3, 20 LED2

## LM3940-3.3-SOT223
designator U?, comment LM3940-3.3
3.3 VOLT LINEAR REGULATOR SOT223; Manufacturer: National Semiconductor; Manufacturer Part Number: LM3940IMP-3.3/NOPB; Number of Regulators: 1; Regulator Topology: Positive Fixed; Voltage - Output: 3.3V; Current - Output: 1A; Voltage - Input: 4.5 ~ 5.5 V; Voltage - Dropout (Typical): 0.11V @ 100mA; Supplier 1: Digi-Key; Supplier Part Number 1: LM3940IMP-3.3DKR-ND; Package / Case: SOT-223 (3 leads + Tab), SC-73, TO-261AA; Operating Temperature: -40°C ~ 125°C; Supplier Part Number: LM3940IMP-3.3DKR-ND; Supplier: Digi-Key; Current - Limit (Min): -; Packaging: Digi-Reel®; RoHS: RoHS Compliant; Category: Integrated Circuits (ICs)
footprint SOT223
footprint TO220-123 (TO-220 - 1-2-3)
pins: 1 In, 2 Gnd, 3 Out

## LM4871
designator IC?
100V - 100W DMOS AUDIO AMPLIFIER WITH MUTE/ST-BY; Value: TDA1557Q
footprint DIP8
footprint SO8 (SOIC, 8-Leads, Body 4.9x3.9mm, Pitch 1.27mm, IPC High Density)
pins: 1, 2, 3, 4, 5, 6, 7, 8

## LMC6044
designator *
Supplier 1: Digi-Key; Supplier Part Number 1: LMC6044AIMX-ND
footprint SO14
footprint DIP14
part A pins: 1, 2 -, 3 +
part B pins: 5 +, 6 -, 7
part C pins: 8, 9 -, 10 +
part D pins: 12 +, 13 -, 14
part E pins: 4 VP, 11 VN

## LMC6482
designator IC?
Dual OA; Value: LMC6482
footprint DIP8
footprint SO8
footprint MSOP8 (MSOP, 8-Leads, Body 3.00x3.00mm, Pitch 0.65mm, IPC High Density)
part A pins: 1 OUT (out), 2 IN- (in), 3 IN+ (in), 4 V- (power), 8 V+ (power)
part B pins: 5 IN+ (in), 6 IN- (in), 7 OUT (out)

## LOGO
designator LOGO?, comment THAMKHANH
Value: A1015
footprint THAMKHANH
text: TK